# EAGLE library part LM2664M6 (library LM2664M6)
Switched Capacitor Voltage Converter
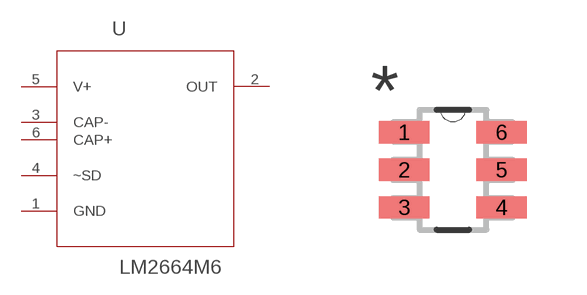
[diagram p0: symbol with the pads of SOT95P300X120-6N; footprint SOT95P300X120-6N]

Designator prefix U

## LM2664M6 (MPN: LM2664M6; OC_FARNELL: 9779671; OC_NEWARK: 41K4026; PACKAGE: SOT-23-6; SUPPLIER: Misc Semiconductors)  [SOT95P300X120-6N]
1  GND  pas
2  OUT  out
3  CAP-  in
4  ~SD  in
5  V+  pwr
6  CAP+  in

## Footprint SOT95P300X120-6N (pad centres in mm)
smd 1.27 x 0.559: 1 -1.219,0.94; 2 -1.219,0; 3 -1.219,-0.94; 4 1.219,-0.94; 5 1.219,0; 6 1.219,0.94